# Altium footprint library Gravix_Solder_Jump.PcbLib: 1 footprints
Each footprint in its own frame and in the unit in brackets; x right, y up, seen from the top. Pads: shape width x height; smd on the part's side, far side on the other; paste and mask are expansions set on the pad; w line width, h text height; cw(c..) or ccw(c..) is an arc to the next point about the centre after c.
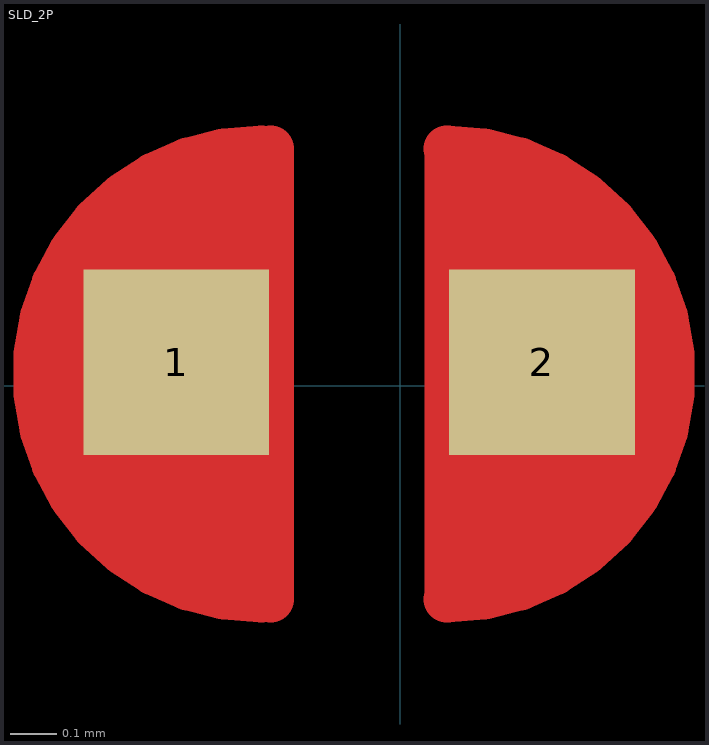
[diagram p0: the footprint, top view; thin cyan lines are the x and y axes]

## SLD_2P [mm]
pads (2):
  rect 0.4x0.4 smd: 1(-0.483,0.051) 2(0.305,0.051)
Top Layer:
  region: 0.102,-0.457 0.102,0.508 0.279,0.508 0.559,0.229 0.559,-0.178 0.279,-0.457
  region: -0.305,0.508 -0.305,-0.457 -0.483,-0.457 -0.762,-0.178 -0.762,0.229 -0.483,0.508
  lines w0.1: -0.3,-0.46 cw(c-0.3,0.025) -0.3,0.511 ; -0.279,-0.46 -0.279,0.511 ; 0.1,-0.46 ccw(c0.1,0.025) 0.1,0.511 ; 0.102,-0.46 0.102,0.511